# EAGLE library part USB_TO_UART (library PIC32MX170F256B)
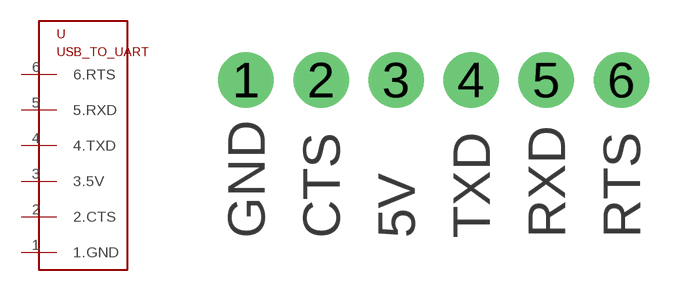
[diagram p1: symbol with the pads of USB_TO_UART; footprint USB_TO_UART]

Designator prefix -

## USB_TO_UART  [USB_TO_UART]
1  1.GND
2  2.CTS
3  3.5V
4  4.TXD
5  5.RXD
6  6.RTS

## Footprint USB_TO_UART (pad centres in mm)
drill 1.016 pad 1.88: 1 -6.35,0; 2 -3.81,0; 3 -1.27,0; 4 1.27,0; 5 3.81,0; 6 6.35,0